# EAGLE library part LM3414 (library _mtvl.power)
LM3414/HV 1-A, 60-W Common Anode-Capable Constant Current Buck LED Driver Requires No External Current Sensing Resistor
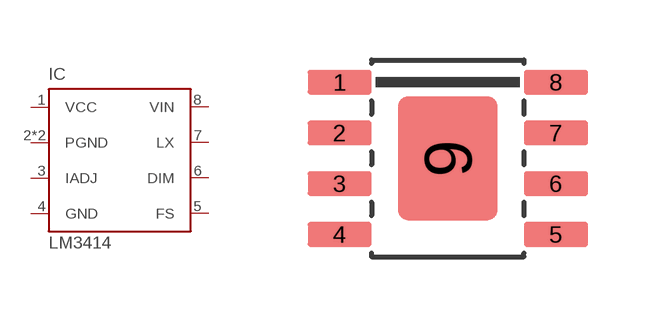
[diagram p19: symbol with the pads of SOIC8N; footprint SOIC8N]

Designator prefix IC

## LM3414  [SOIC8N]
1  VCC
2  PGND
3  IADJ
4  GND
5  FS
6  DIM
7  LX
8  VIN
9  PGND

## Footprint SOIC8N (pad centres in mm)
Small Outline IC with Power Pad
smd 1.6 x 0.61: 1 -2.705,1.905; 2 -2.705,0.635; 3 -2.705,-0.635; 4 -2.705,-1.905; 5 2.705,-1.905; 6 2.705,-0.635; 7 2.705,0.635; 8 2.705,1.905
smd 2.49 x 3.1: 9 0,0